# Altium schematic symbol library pedals-jacks.SCHLIB: 13 symbols
Pins are listed as number, name and electrical type; pins without a type are passive.

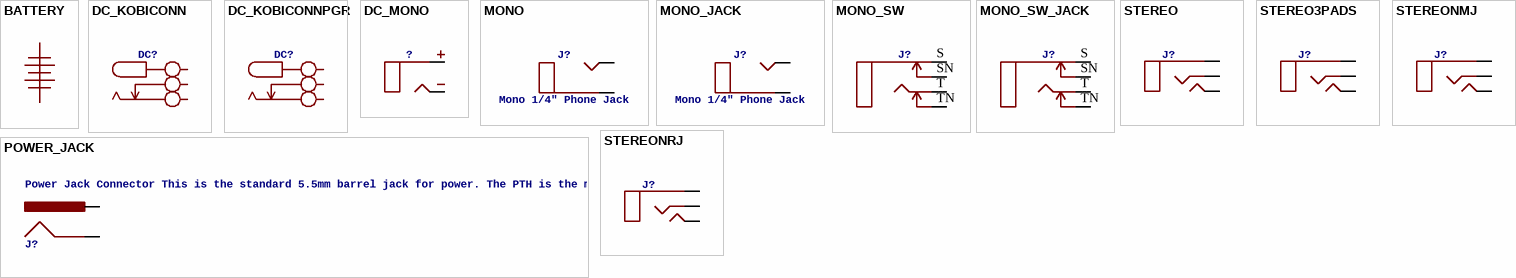
[diagram p0: symbols BATTERY to STEREONRJ]

## BATTERY
designator 1?
footprint TWO_PADS
pins: S P$2, T P$1

## DC_KOBICONN
designator DC?
footprint DC_KOBICONN
pins: R, S, T

## DC_KOBICONNPGR
designator DC?
footprint PGR
pins: RING R, SLEEVE S, TIP T

## DC_MONO
designator ?
footprint DC
pins: S SLEEVE, T TIP

## MONO
designator J?, comment Mono 1/4" Phone Jack
footprint TWO_PADS
pins: S SLEEVE, T TIP

## MONO_JACK
designator J?, comment Mono 1/4" Phone Jack
footprint MONO_SW
pins: S SLEEVE, T TIP

## MONO_SW
designator J?
footprint FOUR_PADS
pins: S, SN, T, TN

## MONO_SW_JACK
designator J?
footprint MONO_SW
pins: S, SN, T, TN

## POWER_JACK
designator J?, comment Power Jack Connector This is the standard 5.5mm barrel jack for power. The PTH is the most common, proven, reliable, footprint. The Slot footprint only works if the mill layer is transmitted to the PCB fab house so be warned.    Here are the connectors we sell at SparkFun: DC Barrel Power Jack/Connector (PRT-00119)  DC Barrel Power Jack/Connector (SMD) (PRT-12748)  DC Barrel Jack Adapter - Breadboard Compatible (PRT-10811)       It is used on this SparkFun product (and many, many others): SparkFun RedBoard - Programmed with Arduino (DEV-12757)       Also, if you need a mating power supply or connector, please check these out: Wall Adapter Power Supply - 9VDC 650mA (TOL-00298)  DC Barrel Jack Adapter - Male (PRT-10287)
PROD_ID: CONN-08197
footprint POWER_JACK_PTH
pins: GND, PWR

## STEREO
designator J?
footprint STEREO_PCB
pins: P$1 S, P$2 R, P$3 T

## STEREO3PADS
designator J?
footprint THREEPADS
pins: RING R, SLEEVE S, TIP T

## STEREONMJ
designator J?
footprint NMJ6HCD2
pins: R, S, T

## STEREONRJ
designator J?
footprint NRJ6HF-1
pins: R, S, T